# Altium footprint library DFN.PcbLib: 9 footprints
Each footprint in its own frame and in the unit in brackets; x right, y up, seen from the top. Pads: shape width x height; smd on the part's side, far side on the other; paste and mask are expansions set on the pad; w line width, h text height; cw(c..) or ccw(c..) is an arc to the next point about the centre after c.
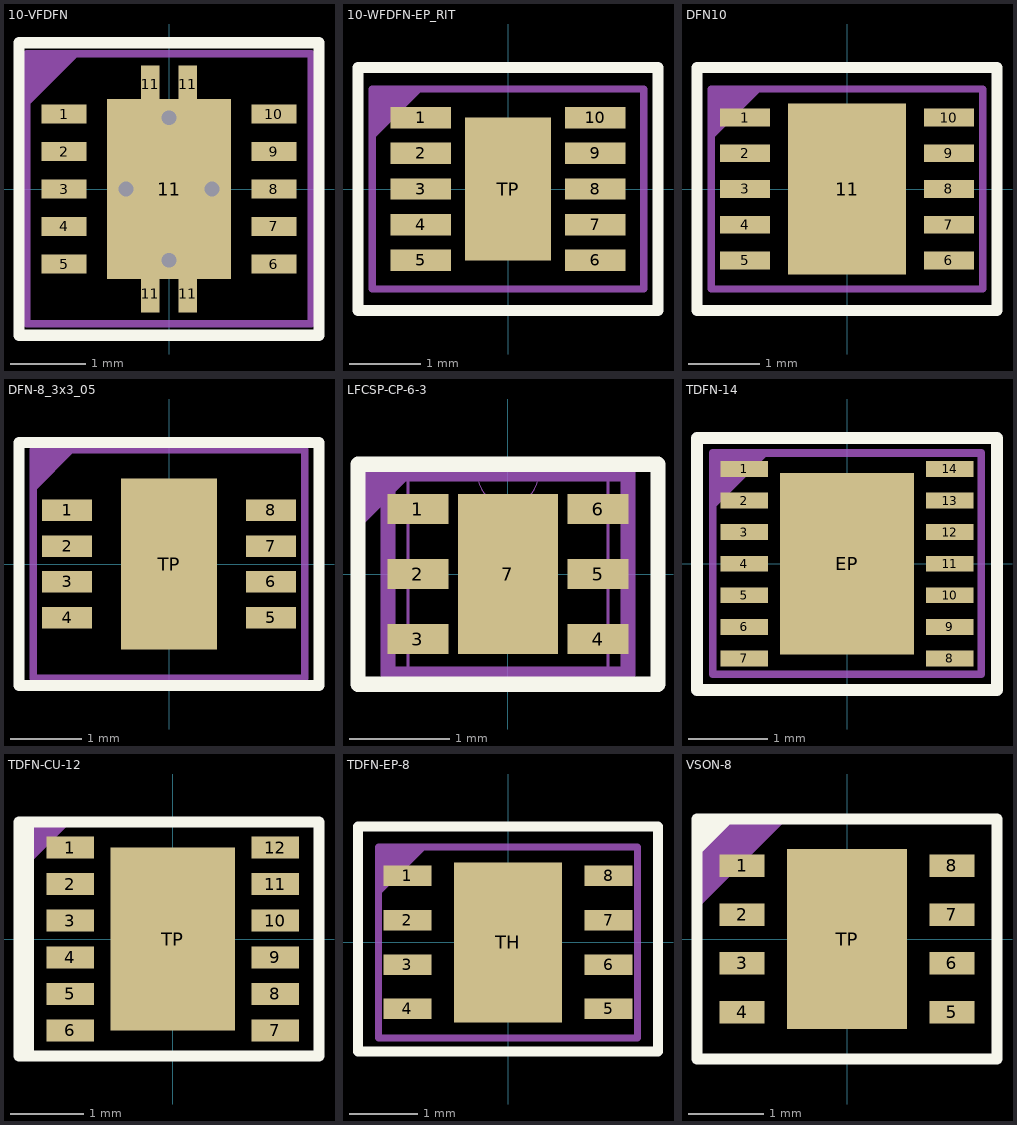
[diagram p0: the footprints below, top view; thin cyan lines are the x and y axes]

## 10-VFDFN [mm]
pads (15):
  rect 0.6x0.25 smd: 1(-1.4,1) 2(-1.4,0.5) 3(-1.4,0) 4(-1.4,-0.5) 5(-1.4,-1) 6(1.4,-1) 7(1.4,-0.5) 8(1.4,0) 9(1.4,0.5) 10(1.4,1)
  rect 0.25x0.5 smd: 11(-0.25,-1.4) 11(-0.25,1.4) 11(0.25,-1.4) 11(0.25,1.4)
  rect 1.65x2.4 smd: 11(0,0)
via 0,-0.95 diameter 0.2 hole 0.2
via 0,0.95 diameter 0.2 hole 0.2
via -0.575,0 diameter 0.2 hole 0.2
via 0.575,0 diameter 0.2 hole 0.2
Top Overlay:
  lines w0.153: -2,-1.95 -2,1.95 2,1.95 2,-1.95 -2,-1.95
  text "." at -2.547,1.753 h0.8
Top Assembly:
  region: -1.9,1.8 -1.25,1.8 -1.9,1.15
  lines w0.1: -1.9,1.15 -1.25,1.8 ; -1.9,-1.8 1.9,-1.8 1.9,1.8 -1.9,1.8 -1.9,-1.8
  text "'.Designator'" at -3.104,2.422 h1.52
Top Courtyard:
  lines w0.1: -1.9,1.15 -1.25,1.8 ; -1.9,-1.8 -1.9,1.8 1.9,1.8 1.9,-1.8 -1.9,-1.8
  lines w0.153: -0.325,0 0.325,0 ; 0,-0.325 0,0.325
3D body "User Library-LM5166YDRC_VSON-DRC10-1.STEP": height 1, standoff 0, extent -1.56,-1.562 1.56,1.562

## 10-WFDFN-EP_RIT [mm]
pads (11):
  rect 0.85x0.3 smd paste+0 mask+0.08: 1(-1.22,1) 2(-1.22,0.5) 3(-1.22,0) 4(-1.22,-0.5) 5(-1.22,-1) 6(1.22,-1) 7(1.22,-0.5) 8(1.22,0) 9(1.22,0.5) 10(1.22,1)
  rect 1.2x2 smd paste+0 mask+0.08: TP(0,0)
Top Overlay:
  lines w0.153: -2.1,-1.7 2.1,-1.7 2.1,1.7 -2.1,1.7 -2.1,-1.7
  text "." at -2.647,1.653 h0.8
Top Assembly:
  region: -1.9,1.4 -1.25,1.4 -1.9,0.75
  lines w0.1: -1.9,0.75 -1.25,1.4 ; -1.9,-1.4 -1.9,1.4 1.9,1.4 1.9,-1.4 -1.9,-1.4
  text "'.Designator'" at -4.532,-0.333 h0.8
Top Courtyard:
  lines w0.1: -1.9,0.75 -1.25,1.4 ; -1.9,-1.4 -1.9,1.4 1.9,1.4 1.9,-1.4 -1.9,-1.4
  lines w0.153: -0.325,0 0.325,0 ; 0,-0.325 0,0.325
3D body "10-WFDFN-EP_RIT.step": height 0.74, standoff 0, extent -1.295,-1.295 1.295,1.295

## DFN10 [mm]
pads (11):
  rect 0.7x0.25 smd: 1(-1.425,1) 2(-1.425,0.5) 3(-1.425,0) 4(-1.425,-0.5) 5(-1.425,-1) 6(1.425,-1) 7(1.425,-0.5) 8(1.425,0) 9(1.425,0.5) 10(1.425,1)
  rect 1.65x2.4 smd: 11(0,0)
Top Overlay:
  lines w0.153: -2.1,-1.7 -2.1,1.7 2.1,1.7 2.1,-1.7 -2.1,-1.7
  text "." at -2.647,1.653 h0.8
Top Assembly:
  region: -1.9,1.4 -1.25,1.4 -1.9,0.75
  lines w0.1: -1.9,0.75 -1.25,1.4 ; -1.9,-1.4 -1.9,1.4 1.9,1.4 1.9,-1.4 -1.9,-1.4
  text "'.Designator'" at -1.646,-0.638 h1.52
Top Courtyard:
  lines w0.1: -1.9,0.75 -1.25,1.4 ; -1.9,-1.4 -1.9,1.4 1.9,1.4 1.9,-1.4 -1.9,-1.4
  lines w0.153: -0.325,0 0.325,0 ; 0,-0.325 0,0.325
3D body "DFN10_cdo.step": height 0.8, standoff -0.05, extent -1.56,-1.55 1.56,1.55

## DFN-8_3x3_05 [mm]
pads (9):
  rect 0.7x0.3 smd mask+0.06: 1(-1.425,0.75) 2(-1.425,0.25) 3(-1.425,-0.25) 4(-1.425,-0.75) 5(1.425,-0.75) 6(1.425,-0.25) 7(1.425,0.25) 8(1.425,0.75)
  rect 1.35x2.4 smd: TP(0,0)
Top Overlay:
  lines w0.153: -2.1,-1.7 -2.1,1.7 2.1,1.7 2.1,-1.7 -2.1,-1.7
  text "." at -2.647,1.403 h0.8
Top Assembly:
  region: -1.925,1.625 -1.275,1.625 -1.925,0.975
  lines w0.1: -1.9,-1.6 -1.9,1.6 1.9,1.6 1.9,-1.6 -1.9,-1.6
  text "'.Designator'" at -8.633,-0.635 h1.52
Top Courtyard:
  lines w0.1: -1.9,-1.6 -1.9,1.6 1.9,1.6 1.9,-1.6 -1.9,-1.6
  lines w0.153: -0.325,0 0.325,0 ; 0,-0.325 0,0.325
3D body "DFN-8-3x3-0_5.STEP": height 0.8, standoff 0, extent -1.56,-1.55 1.56,1.55

## LFCSP-CP-6-3 [mm]
pads (7):
  rect 0.606x0.3 smd paste+0 mask+0: 1(-0.9,0.65) 2(-0.9,0) 3(-0.9,-0.65) 4(0.9,-0.65) 5(0.9,0) 6(0.9,0.65)
  rect 1x1.6 smd paste+0 mask+0: 7(0,0)
Top Overlay:
  lines w0.153: -1.5,-1.1 1.5,-1.1 1.5,1.1 -1.5,1.1 -1.5,-1.1
  text "." at -2.346,0.954 h1.52
Mechanical 1:
  circle w0.1: c-0.9,0.7 r0.05
  lines w0.15: -1.2,-1 -1.2,1 1.2,1 1.2,-1 -1.2,-1
Top Assembly:
  region: -1.5,1.1 -0.85,1.1 -1.5,0.45
  lines w0.1: -1.5,-1.1 -1.5,1.1 1.5,1.1 1.5,-1.1 -1.5,-1.1
  text "'.Designator'" at -1.496,-0.763 h1.52
Top Courtyard:
  lines w0.1: -1.5,-1.1 1.5,-1.1 1.5,1.1 -1.5,1.1 -1.5,-1.1
  lines w0.15: -0.2,0 0.2,0 ; 0,-0.2 0,0.2
Mechanical 13:
  lines w0: -0.305,1 ccw(c0,1) 0.305,1
  lines w0.025: -1,-1 1,-1 1,1 -1,1 -1,-1
3D body "CP_6_3_ADI.step": height 0.1, standoff 0, extent -1.003,-1 1.003,1

## TDFN-14 [mm]
pads (15):
  rect 0.6x0.2 smd: 1(-1.3,1.2) 2(-1.3,0.8) 3(-1.3,0.4) 4(-1.3,0) 5(-1.3,-0.4) 6(-1.3,-0.8) 7(-1.3,-1.2) 8(1.3,-1.2) 9(1.3,-0.8) 10(1.3,-0.4) 11(1.3,0) 12(1.3,0.4) 13(1.3,0.8) 14(1.3,1.2)
  rect 1.7x2.3 smd: EP(0,0)
Top Overlay:
  lines w0.153: -1.9,-1.6 1.9,-1.6 1.9,1.593 -1.9,1.593 -1.9,-1.6
  text "." at -2.447,1.453 h0.8
Top Assembly:
  region: -1.7,1.4 -1.05,1.4 -1.7,0.75
  lines w0.1: -1.7,0.75 -1.05,1.4 ; -1.7,-1.4 1.7,-1.4 1.7,1.4 -1.7,1.4 -1.7,-1.4
  text "'.Designator'" at -1.722,2.095 h0.8
Top Courtyard:
  lines w0.1: -1.7,0.75 -1.05,1.4 ; -1.7,-1.4 1.7,-1.4 1.7,1.4 -1.7,1.4 -1.7,-1.4
  lines w0.153: -0.325,0 0.325,0 ; 0,-0.325 0,0.325
3D body "MAX17205G+.STEP": height 0.77, standoff -0.03, extent -1.5,-1.5 1.5,1.5

## TDFN-CU-12 [mm]
pads (13):
  rect 0.65x0.3 smd mask+0.05: 1(-1.4,1.25) 2(-1.4,0.75) 3(-1.4,0.25) 4(-1.4,-0.25) 5(-1.4,-0.75) 6(-1.4,-1.25) 7(1.4,-1.25) 8(1.4,-0.75) 9(1.4,-0.25) 10(1.4,0.25) 11(1.4,0.75) 12(1.4,1.25)
  rect 1.7x2.5 smd mask+0.06: TP(0,0)
Top Overlay:
  region: -2.1,1.6 -1.9,1.6 -1.9,-1.6 -2.1,-1.6
  lines w0.153: -2.1,-1.6 2,-1.6 2,1.6 -2.1,1.6 -2.1,-1.6
Top Assembly:
  region: -2.1,1.6 -1.45,1.6 -2.1,0.95
  lines w0.1: -2.1,0.95 -1.45,1.6 ; -2.1,-1.6 2,-1.6 2,1.6 -2.1,1.6 -2.1,-1.6
  text "'.Designator'" at -4.532,-0.333 h0.8
Top Courtyard:
  lines w0.1: -2.1,-1.6 2,-1.6 2,1.6 -2.1,1.6 -2.1,-1.6
  lines w0.153: -0.325,0.05 0.325,0.05 ; 0,-0.275 0,0.375
3D body "User Library-TDFN-12-EP-3x3-05.STEP": height 0.75, standoff 0, extent -1.5,-1.5 1.5,1.5

## TDFN-EP-8 [mm]
pads (9):
  rect 0.7x0.3 smd: 1(-1.475,0.975) 2(-1.475,0.325) 3(-1.475,-0.325) 4(-1.475,-0.975) 5(1.475,-0.975) 6(1.475,-0.325) 7(1.475,0.325) 8(1.475,0.975)
  rect 1.58x2.35 smd: TH(0,0)
Top Overlay:
  lines w0.153: -2.2,-1.6 2.2,-1.6 2.2,1.7 -2.2,1.7 -2.2,-1.6
  text "." at -2.747,1.553 h0.8
Top Assembly:
  region: -1.9,1.4 -1.25,1.4 -1.9,0.75
  lines w0.1: -1.9,0.75 -1.25,1.4 ; -1.9,-1.4 1.9,-1.4 1.9,1.4 -1.9,1.4 -1.9,-1.4
  text "'.Designator'" at -1.747,1.82 h0.8
Top Courtyard:
  lines w0.1: -1.9,0.75 -1.25,1.4 ; -1.9,-1.4 -1.9,1.4 1.9,1.4 1.9,-1.4 -1.9,-1.4
  lines w0.153: -0.425,0 0.425,0 ; 0,-0.425 0,0.425
3D body "MAX1507ETA+.STEP": height 0.8, standoff 0, extent -1.5,-1.5 1.5,1.5

## VSON-8 [mm]
pads (9):
  rect 0.6x0.3 smd mask+0.05: 1(-1.4,0.975) 2(-1.4,0.325) 3(-1.4,-0.325) 4(-1.4,-0.975) 5(1.4,-0.975) 6(1.4,-0.325) 7(1.4,0.325) 8(1.4,0.975)
  rect 1.6x2.4 smd mask+0.05: TP(0,0)
Top Overlay:
  region: -2,1.6 -1.5,1.6 -2,1.1
  lines w0.153: -2,-1.6 -2,1.6 2,1.6 2,-1.6 -2,-1.6
Top Assembly:
  region: -2,1.6 -0.8,1.6 -2,0.4
  lines w0.1: -2,-1.6 2,-1.6 2,1.6 -2,1.6 -2,-1.6
  text "'.Designator'" at -4.532,-0.333 h0.8
Top Courtyard:
  lines w0.1: -2,-1.6 -2,1.6 2,1.6 2,-1.6 -2,-1.6
  lines w0.153: -0.325,0 0.325,0 ; 0,-0.325 0,0.325
3D body "User Library-VSON_8_3x3_e0p65.step": height 1, standoff 0, extent -1.5,-1.5 1.5,1.5